# EAGLE library part WE-FA (library wuerth-elektronik_v2)
SMD EMI Suppression Ferrite Bead Arrays WE-FA - 4 SMD ferrites in one component - Broadband screening because of the core material NiZn - Extremely low cross talk
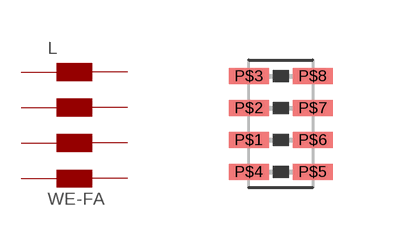
[diagram p0: symbol with the pads of WE-FA_S_1206; footprint WE-FA_S_1206]

Designator prefix L

## WE-FA  [WE-FA_S_1206]
P$1  P$3  pas
P$2  P$5  pas
P$3  P$7  pas
P$4  P$1  pas
P$5  P$2  pas
P$6  P$4  pas
P$7  P$6  pas
P$8  P$8  pas

## Footprint WE-FA_S_1206 (pad centres in mm)
SMD EMI Supression Ferrite Bead Array
smd 1 x 0.4: P$1 -2.07,-0.4; P$2 -2.07,0.4; P$3 -2.07,1.2; P$4 -2.07,-1.2; P$5 -0.47,-1.2; P$6 -0.47,-0.4; P$7 -0.47,0.4; P$8 -0.47,1.2